# Altium footprint library VAR-Preset.PcbLib: 1 footprints
Each footprint in its own frame and in the unit in brackets; x right, y up, seen from the top. Pads: shape width x height; smd on the part's side, far side on the other; paste and mask are expansions set on the pad; w line width, h text height; cw(c..) or ccw(c..) is an arc to the next point about the centre after c.
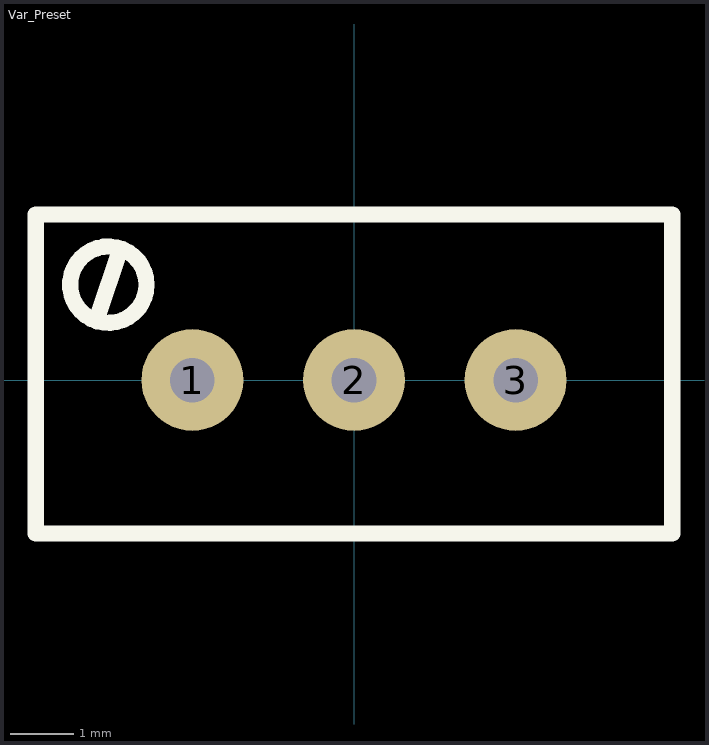
[diagram p0: the footprint, top view; thin cyan lines are the x and y axes]

## Var_Preset [mm]
pads (3):
  round 1.6 hole 0.7: 1(-2.54,0) 2(0,0) 3(2.54,0)
Top Overlay:
  circle w0.254: c-3.861,1.499 r0.6
  lines w0.254: -4.026,1.003 -3.683,2.032 ; -5,-2.41 -5,2.6 5,2.6 5,-2.41 -5,-2.41
3D body "User Library-3296_Bourns.step": height 11.55, standoff -7.62, extent -4.765,-2.413 4.765,2.417